# Altium integrated library BSR033A.IntLib: 35 symbols
Pins are listed as number, name and electrical type; pins without a type are passive.

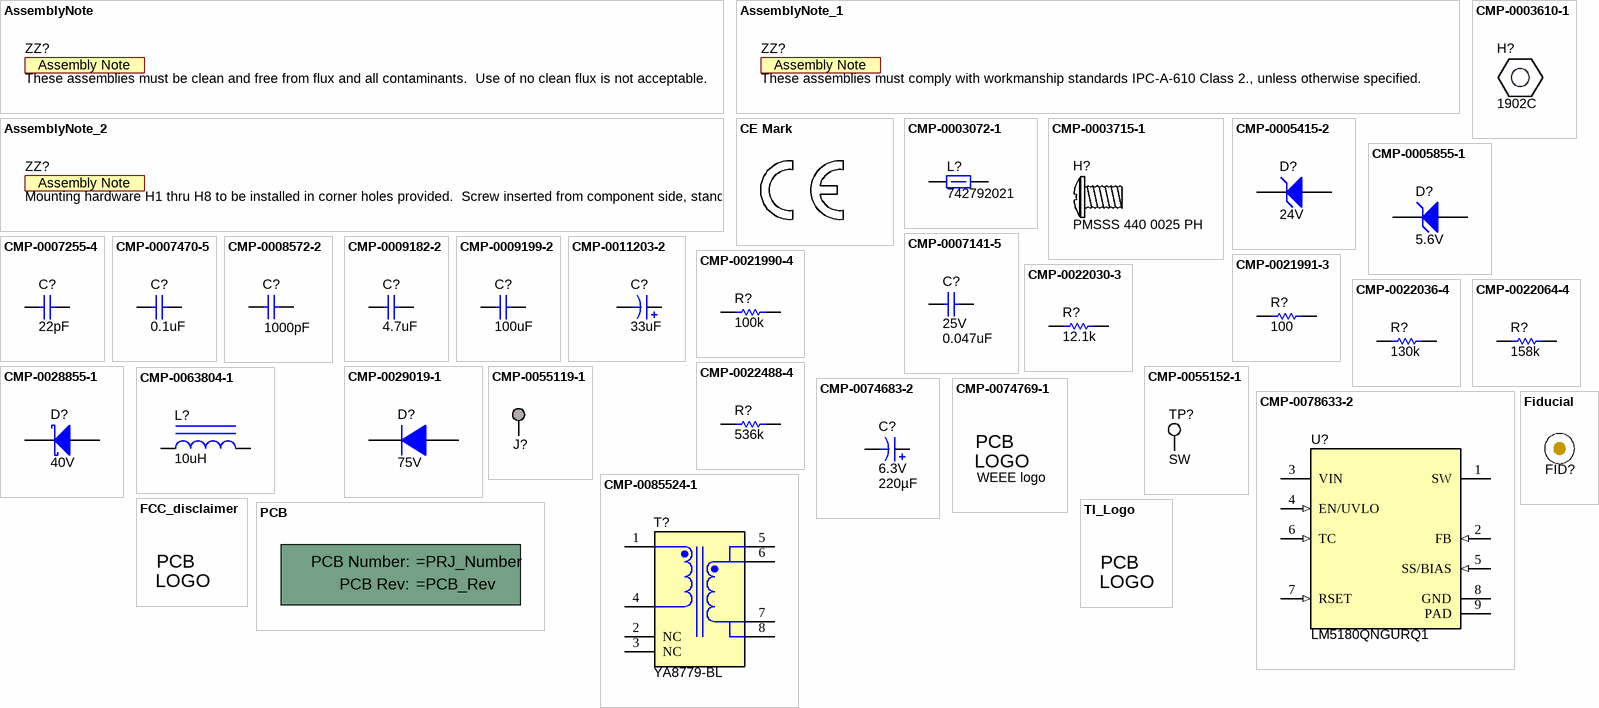
[diagram p0: symbols AssemblyNote to TI_Logo]

## AssemblyNote
designator ZZ?, comment These assemblies must be clean and free from flux and all contaminants.  Use of no clean flux is not acceptable.  (no BOM)
SymbolCreator: codlsc; CompType: AssemblyNote; SymbolVersion: 2010-05-18; ClassName: AssemblyNote; Publisher: Texas Instruments; LatestRevisionDate: 2017-05-23
footprint AssemblyNote
text: Assembly Note

## AssemblyNote_1
designator ZZ?, comment These assemblies must comply with workmanship standards IPC-A-610 Class 2., unless otherwise specified.  (no BOM)
SymbolCreator: codlsc; CompType: AssemblyNote; SymbolVersion: 2010-05-18; ClassName: AssemblyNote; Publisher: Texas Instruments; LatestRevisionDate: 2017-05-23
footprint AssemblyNote
text: Assembly Note

## AssemblyNote_2
designator ZZ?, comment Mounting hardware H1 thru H8 to be installed in corner holes provided.  Screw inserted from component side, standoff on solder side.  (no BOM)
SymbolCreator: codlsc; CompType: AssemblyNote; SymbolVersion: 2010-05-18; ClassName: AssemblyNote; Publisher: Texas Instruments; LatestRevisionDate: 2017-05-23
footprint AssemblyNote
text: Assembly Note

## CE Mark
designator LOGO?  (value not drawn)  (no BOM)
SymbolCreator: a0412235; SymbolVersion: 2014-07-08; Published: 2009-03-03; Publisher: Texas Instruments; LatestRevisionDate: 2016-03-21
footprint CE_Mark_5mm
footprint CE_Mark_10mm

## CMP-0003072-1
designator L?, comment 742792021
Ferrite Bead, 22 ohm @ 100 MHz, 6 A, 0805; Manufacturer: Wurth Elektronik; Ztyp@1GHz_Ohm: 40.219; ZTyp@100MHz_Ohm: 22; SizeAreaWB_mm2: 6.75; DCR_ohm: 8m; Value1: 0.008 ohm; Value: 22 ohm; Imax_A: 6A; SizeZ_mm: 1.45; SizeX_mm: 2; SizeY_mm: 1.25; SizeArea_mm2: 2.5; ComponentLink1URL: http://katalog.we-online.de/pbs/datasheet/742792021.pdf; Supplier Part Number 2: 710-742792021; Publisher: Texas Instruments; Supplier 2: Mouser; Published: 2014-04-30; RoHS: Y; MountType: SMT; Supplier 1: Digi-Key; PackageReference: 0805; Value2: 6A; CompType: Ferrite Bead; LatestRevisionDate: 2017-03-09; PartNumber: 742792021; ComponentLink1Description: Datasheet link; Supplier Part Number 1: 732-4637-1-ND; ValueDisplayed: 22 ohm
footprint 0805_HV (0805 with 30mil clearance between pads)
footprint 0805M (0805 from SM-752 data)
footprint 0805 (0805 from SM-752 data)
footprint 0805L (0805 from SM-752 data)
footprint 0805_HV1 (Custom footprint based on analyzing multiple manufacturer recommendations)
pins: 1, 2

## CMP-0003610-1
designator H?, comment 1902C
Standoff, Hex, 0.5"L #4-40 Nylon; Manufacturer: Keystone; CompType: Hardware; Component Classes: MountingHoles; ComponentLink1URL: http://www.keyelco.com/pdfs/M55-prod31.pdf; Key: 1902C; Publisher: Texas Instruments; Supplier 1: Digi-Key; PackageReference: Standoff; LatestRevisionDate: 2017-03-09; RoHS: Y; Supplier Part Number 1: 36-1902C-ND; MountType: N/A; PartNumber: 1902C; ComponentLink1Description: Datasheet Link; ClassName: Mounting Holes
footprint Keystone_1902C (Hex Standoff, 4-40 threaded, nylon)

## CMP-0003715-1
designator H?, comment PMSSS 440 0025 PH
MACHINE SCREW PAN PHILLIPS 4-40; Manufacturer: B&F Fastener Supply; CompType: Standoff; Component Classes: MountingHoles; ComponentLink1URL: http://www.fasnetdirect.com/refguide/Machinepancombo.pdf; Key: PMSSS 440 0025 PH; Publisher: Texas Instruments; Supplier 1: Digi-Key; PackageReference: Machine Screw, 4-40, 1/4 inch; LatestRevisionDate: 2017-03-09; RoHS: Y; Supplier Part Number 1: H703-ND; MountType: TH; PartNumber: PMSSS 440 0025 PH; ComponentLink1Description: Datasheet Link; ClassName: Mounting Holes
footprint B_F_PMSSS4400025PH (MACHINE SCREW PAN PHILLIPS 4-40)

## CMP-0005415-2
designator D?, comment Vz_V: 24V  (hidden comment: DFLZ24-7)
Diode, Zener, 24 V, 1 W, PowerDI123; Manufacturer: Diodes Inc.; Power_W: 1W; SizeAreaWB_mm2: 13.066; RJA_CperW: 110; U/M: EA; Value: 24V; SizeZ_mm: 0.98; SizeX_mm: 3.7; SizeY_mm: 1.78; SizeArea_mm2: 6.586; AEC Category: Q101; Supplier Part Number 2: 621-DFLZ24-7; Publisher: Texas Instruments; Supplier 2: Mouser; Supplier Part Number 3: 2077975; Supplier 3: Farnell; Published: 2008-10-08; RoHS: Y; Value1: 1W; MountType: SMT; Supplier 1: Digi-Key; LatestRevisionNote: Updated Supplier Data; PackageReference: PowerDI123; CompType: Zener; LatestRevisionDate: 2017-03-09; PartNumber: DFLZ24-7; AEC Qualified: ?; ComponentLink1Description: Datasheet link; Supplier Part Number 1: DFLZ24DICT-ND; ComponentLink1URL: http://www.diodes.com/datasheets/ds30464.pdf
footprint PowerDI123 (Diodes Inc recommended land pattern, document number DS30628 Rev. 6-2)
pins: 1 K, 2 A

## CMP-0005855-1
designator D?, comment Vz_V: 5.6V  (hidden comment: MMSZ5232BS-7-F)
Diode, Zener, 5.6 V, 200 mW, SOD-323; Manufacturer: Diodes Inc.; Power_W: 200mW; SizeAreaWB_mm2: 8.695; Value1: 0.2W; RJA_CperW: 350; U/M: EA; Value: 5.6V; SizeZ_mm: 1; SizeX_mm: 2.7; SizeY_mm: 1.35; SizeArea_mm2: 3.645; AEC Category: Q101; ComponentLink1URL: http://www.diodes.com/datasheets/ds31038.pdf; Supplier Part Number 2: 621-MMSZ5232BS-F; Publisher: Texas Instruments; Supplier 2: Mouser; Published: 2008-10-08; RoHS: Y; MountType: SMT; Supplier 1: Digi-Key; LatestRevisionNote: Updated Supplier Data; PackageReference: SOD-323; CompType: Zener; LatestRevisionDate: 2017-03-09; PartNumber: MMSZ5232BS-7-F; AEC Qualified: ?; ComponentLink1Description: Datasheet link; Supplier Part Number 1: MMSZ5232BS-FDICT-ND
footprint SOD-323 (NXP recommended land pattern)
pins: 1 K, 2 A

## CMP-0007141-5
designator C?, comment VDC_V: 25V  ValueDisplayed: 0.047uF  (hidden comment: GCM188R71E473KA37D)
CAP, CERM, 0.047 uF, 25 V, +/- 10%, X7R, AEC-Q200 Grade 1, 0603; Manufacturer: MuRata; TaMin_C: -55°C; Polarized: N; SizeAreaWB_mm2: 4.68; Value1: Unknown; U/M: EA; TaMax_C: 125°C; SizeZ_mm: 1; SizeX_mm: 1.6; SizeY_mm: 0.8; Cap_Case: 0603; SizeArea_mm2: 1.28; CompType: Capacitor; AEC Qualified: Y; Cap_F: 47nF; AEC Category: Q200; Supplier Part Number 2: 81-GCM188R71E473KA7D; Publisher: Texas Instruments; Supplier 2: Mouser; TempCo: X7R; Published: 2008-06-19; RoHS: Y; MountType: SMT; Value: 0.047uF; Supplier 1: Digi-Key; PackageReference: 0603; Tolerance_%: 10%; Value2: 25V; LatestRevisionDate: 2017-03-09; PartNumber: GCM188R71E473KA37D; ComponentLink1Description: Datasheet link; Supplier Part Number 1: 490-8018-1-ND; Technology: Ceramic; ComponentLink1URL: http://psearch.murata.com/capacitor/product/GCM188R71E473KA37%23.pdf; AEC Grade: 1
footprint 0603 (0603 from SM-752 data)
footprint 0603_HV (Ernesto recommended land pattern.  26 mil between pads.)
footprint 0603L (0603 from SM-752 data)
footprint 0603S
footprint 0603M (0603 from SM-752 data)
pins: 1, 2

## CMP-0007255-4
designator C?, comment ValueDisplayed: 22pF  (hidden comment: GRM1885C2A220JA01D)
CAP, CERM, 22 pF, 100 V, +/- 5%, C0G/NP0, 0603; Manufacturer: MuRata; TaMin_C: -55°C; Polarized: N; SizeAreaWB_mm2: 4.68; Value1: Unknown; U/M: EA; Value: 22pF; TaMax_C: 125°C; SizeZ_mm: 1; SizeX_mm: 1.6; SizeY_mm: 0.8; Cap_Case: 0603; Value2: 100V; SizeArea_mm2: 1.28; CompType: Capacitor; AEC Category: Q200; Supplier Part Number 2: 81-GRM1885C2A220JA01; Supplier 2: Mouser; TempCo: C0G/NP0; RoHS: Y; MountType: SMT; Supplier 1: Digi-Key; PackageReference: 0603; Tolerance_%: 5%; PartNumber: GRM1885C2A220JA01D; AEC Qualified: ?; Cap_F: 22pF; VDC_V: 100V; ComponentLink1Description: Datasheet link; Supplier Part Number 1: 490-1335-1-ND; Technology: Ceramic; ComponentLink1URL: http://search.murata.co.jp/Ceramy/PnsearchViewAction.do?HnOFG=ON&HnNFG=ON&SEL_CNT=50&sLang=en&sKey=GRM1885C2A220JA01D&x=9&y=9&search=startwith; Publisher: Texas Instruments; Published: 2008-06-19; LatestRevisionDate: 2017-03-09
footprint 0603 (0603 from SM-752 data)
footprint 0603_HV (Ernesto recommended land pattern.  26 mil between pads.)
footprint 0603L (0603 from SM-752 data)
footprint 0603S
footprint 0603M (0603 from SM-752 data)
pins: 1, 2

## CMP-0007470-5
designator C?, comment ValueDisplayed: 0.1uF  (hidden comment: GRM188R72A104KA35J)
CAP, CERM, 0.1 uF, 100 V, +/- 10%, X7R, 0603; Manufacturer: MuRata; TaMin_C: -55°C; Polarized: N; SizeAreaWB_mm2: 4.68; Value1: Unknown; U/M: EA; Value: 0.1uF; TaMax_C: 125°C; SizeZ_mm: 1; SizeX_mm: 1.6; SizeY_mm: 0.8; Cap_Case: 0603; Value2: 100V; SizeArea_mm2: 1.28; CompType: Capacitor; Cap_F: 100nF; AEC Category: Q200; Supplier Part Number 2: 81-GRM188R72A104KA5J; Publisher: Texas Instruments; Supplier 2: Mouser; TempCo: X7R; Published: 2008-06-19; RoHS: Y; MountType: SMT; Supplier 1: Digi-Key; PackageReference: 0603; Tolerance_%: 10%; LatestRevisionDate: 2017-03-09; PartNumber: GRM188R72A104KA35J; AEC Qualified: ?; VDC_V: 100V; ComponentLink1Description: Datasheet link; Supplier Part Number 1: 490-6439-1-ND; Technology: Ceramic; ComponentLink1URL: http://search.murata.co.jp/Ceramy/image/img/A01X/G101/ENG/GRM188R72A104KA35-01.pdf
footprint 0603 (0603 from SM-752 data)
footprint 0603_HV (Ernesto recommended land pattern.  26 mil between pads.)
footprint 0603L (0603 from SM-752 data)
footprint 0603S
footprint 0603M (0603 from SM-752 data)
pins: 1, 2

## CMP-0008572-2
designator C?, comment ValueDisplayed: 1000pF  (hidden comment: 202R18W102KV4E)
CAP, CERM, 1000 pF, 2000 V, +/- 10%, X7R, 1206_190; Manufacturer: Johanson Technology; TaMin_C: -55°C; Polarized: N; SizeAreaWB_mm2: 10.92; Value1: Unknown; U/M: EA; Value: 1000pF; TaMax_C: 125°C; SizeZ_mm: 1.9; SizeX_mm: 3.2; SizeY_mm: 1.6; Cap_Case: 1206; Value2: 2000V; SizeArea_mm2: 5.12; CompType: Capacitor; Cap_F: 1nF; VDC_V: 2kV; AEC Category: Q200; Publisher: Texas Instruments; TempCo: X7R; Published: 2008-06-19; RoHS: Y; MountType: SMT; PackageReference: 1206_190; Tolerance_%: 10%; LatestRevisionDate: 2017-03-09; PartNumber: 202R18W102KV4E; AEC Qualified: ?; ComponentLink1Description: Datasheet link; Technology: Ceramic; ComponentLink1URL: http://www.johansondielectrics.com/images/stories/catalog/JDI-Product-Catalog.pdf
footprint 1206_190
footprint 1206_190L (1206_190)
footprint 1206_190M (1206_190)
pins: 1, 2

## CMP-0009182-2
designator C?, comment ValueDisplayed: 4.7uF  (hidden comment: GRM32DC72A475KE01L)
CAP, CERM, 4.7 uF, 100 V, +/- 10%, X7S, 1210; Manufacturer: MuRata; TaMin_C: -55°C; Polarized: N; SizeAreaWB_mm2: 14.7; Value1: Unknown; U/M: EA; Value: 4.7uF; TaMax_C: 125°C; SizeZ_mm: 2.2; SizeX_mm: 3.2; SizeY_mm: 2.5; Cap_Case: 1210; Value2: 100V; SizeArea_mm2: 8; CompType: Capacitor; Cap_F: 4.7µF; AEC Category: Q200; Publisher: Texas Instruments; TempCo: X7S; Published: 2008-06-19; RoHS: Y; MountType: SMT; Supplier 1: Mouser; PackageReference: 1210; Tolerance_%: 10%; LatestRevisionDate: 2017-03-09; PartNumber: GRM32DC72A475KE01L; AEC Qualified: N; VDC_V: 100V; ComponentLink1Description: Datasheet link; AEC Grade: N/A; Supplier Part Number 1: 81-GRM32DC72A475KE1L; Technology: Ceramic; ComponentLink1URL: http://search.murata.co.jp/Ceramy/image/img/A01X/G101/ENG/GRM32DC72A475KE01-01.pdf
footprint 1210_220 (1210)
footprint 1210_220L (1210)
footprint 1210_220M (1210)
pins: 1, 2

## CMP-0009199-2
designator C?, comment ValueDisplayed: 100uF  (hidden comment: GRM32EC80J107ME20L)
CAP, CERM, 100 uF, 6.3 V, +/- 20%, X6S, 1210; Manufacturer: MuRata; TaMin_C: -55°C; Polarized: N; SizeAreaWB_mm2: 14.7; Value1: Unknown; U/M: EA; Value: 100uF; TaMax_C: 105°C; SizeZ_mm: 2.7; SizeX_mm: 3.2; SizeY_mm: 2.5; Cap_Case: 1210; Value2: 6.3V; SizeArea_mm2: 8; CompType: Capacitor; Cap_F: 100µF; AEC Category: Q200; Supplier Part Number 2: 81-GRM32EC80J107ME0L; Publisher: Texas Instruments; Supplier 2: Mouser; Supplier Part Number 3: 1889302; TempCo: X6S; Supplier 3: Farnell; Published: 2008-06-19; RoHS: Y; MountType: SMT; Supplier 1: Digi-Key; PackageReference: 1210; Tolerance_%: 20%; LatestRevisionDate: 2017-03-09; PartNumber: GRM32EC80J107ME20L; AEC Qualified: ?; VDC_V: 6.3V; ComponentLink1Description: Datasheet link; Supplier Part Number 1: GRM32EC80J107ME20L-ND; Technology: Ceramic; ComponentLink1URL: http://search.murata.co.jp/Ceramy/PnsearchViewAction.do?HnOFG=ON&HnNFG=ON&SEL_CNT=50&sLang=en&sKey=GRM32EC80J107ME20L&x=9&y=9&search=startwith
footprint 1210_270 (1210)
footprint 1210_270L (1210)
footprint 1210_270M (1210)
pins: 1, 2

## CMP-0011203-2
designator C?, comment ValueDisplayed: 33uF  (hidden comment: EEE-FK2A330P)
CAP, AL, 33 uF, 100 V, +/- 20%, 0.7 ohm, AEC-Q200 Grade 2, SMD; Manufacturer: Panasonic; TaMin_C: -55°C; Polarized: Y; SizeAreaWB_mm2: 172.2; Value1: 0.7 ohm; U/M: EA; Value: 33uF; TaMax_C: 105°C; SizeZ_mm: 10.2; SizeX_mm: 12; SizeY_mm: 10.3; Cap_Case: G; Value2: 100V; SizeArea_mm2: 123.6; CompType: Capacitor; Cap_F: 33µF; IRMS_A: 2dA; AEC Grade: 2; AEC Category: Q200; ESR_ohm: 7d; Supplier Part Number 2: 667-EEE-FK2A330P; Publisher: Texas Instruments; Supplier 2: Mouser; Supplier Part Number 3: 1850130; Supplier 3: Farnell; RoHS: Y; MountType: SMT; Supplier 1: Digi-Key; PackageReference: SMT Radial G; Tolerance_%: 20%; LatestRevisionDate: 2017-03-09; PartNumber: EEE-FK2A330P; AEC Qualified: Y; Series: FK; VDC_V: 100V; ComponentLink1Description: Datasheet link; Supplier Part Number 1: PCE3846CT-ND; Technology: AL; ComponentLink1URL: https://industrial.panasonic.com/cdbs/www-data/pdf/RDE0000/ABA0000C1181.pdf
footprint SM_RADIAL_G (10 x 10.2mm:  Panasonic G)
pins: 1 +, 2 -

## CMP-0021990-4
designator R?, comment ValueDisplayed: 100k  (hidden comment: CRCW0603100KFKEA)
RES, 100 k, 1%, 0.1 W, AEC-Q200 Grade 0, 0603; Manufacturer: Vishay-Dale; Power_W: 100mW; TempCo: 100 ppm/C; Value: 100k; EIA_Code: E96; SizeX_mm: 1.6; SizeY_mm: 0.8; SizeZ_mm: 1; Value2: 0.1W; SizeArea_mm2: 1.28; CompType: Resistor; AEC Qualified: Y; VDC_V: 75V; AEC Category: Q200; AEC Grade: 0; ComponentLink1URL: http://www.vishay.com/docs/20035/dcrcwe3.pdf; Supplier Part Number 2: 42K3668; Supplier 2: Newark; Value_Code: 100k; RoHS: E; Value1: 1%; MountType: SMT; Supplier 1: Digi-Key; PackageReference: 0603; Tolerance_%: 1%; Res_ohm: 100k; PartNumber: CRCW0603100KFKEA; ComponentLink1Description: Datasheet link; Supplier Part Number 1: 541-100KHCT-ND; Technology: Thick Film; Supplier 3: Mouser; Supplier Part Number 3: 71-CRCW0603-100K-E3
footprint 0603 (0603 from SM-752 data)
footprint 0603_HV (Ernesto recommended land pattern.  26 mil between pads.)
footprint 0603L (0603 from SM-752 data)
footprint 0603S
footprint 0603M (0603 from SM-752 data)
pins: 1, 2

## CMP-0021991-3
designator R?, comment ValueDisplayed: 100  (hidden comment: CRCW0603100RFKEA)
RES, 100, 1%, 0.1 W, 0603; Manufacturer: Vishay-Dale; Power_W: 100mW; TempCo: 100 ppm/C; Value_Code: 100R; U/M: EA; Value: 100; EIA_Code: E96; SizeX_mm: 1.6; SizeY_mm: 0.8; SizeZ_mm: 1; Value2: 0.1W; SizeArea_mm2: 1.28; CompType: Resistor; VDC_V: 75V; AEC Category: Q200; Supplier Part Number 2: 52K8078; Publisher: Texas Instruments; Supplier 2: Newark; Supplier Part Number 3: 71-CRCW0603-100-E3; Supplier 3: Mouser; Published: 2008-06-26; RoHS: Y; Value1: 1%; MountType: SMT; Supplier 1: Digi-Key; PackageReference: 0603; Tolerance_%: 1%; Res_ohm: 100; LatestRevisionDate: 2017-03-09; PartNumber: CRCW0603100RFKEA; AEC Qualified: ?; ComponentLink1Description: Datasheet link; Supplier Part Number 1: 541-100HCT-ND; Technology: Thick Film; ComponentLink1URL: http://www.vishay.com/docs/20035/dcrcwe3.pdf
footprint 0603 (0603 from SM-752 data)
footprint 0603_HV (Ernesto recommended land pattern.  26 mil between pads.)
footprint 0603L (0603 from SM-752 data)
footprint 0603S
footprint 0603M (0603 from SM-752 data)
pins: 1, 2

## CMP-0022030-3
designator R?, comment ValueDisplayed: 12.1k  (hidden comment: CRCW060312K1FKEA)
RES, 12.1 k, 1%, 0.1 W, 0603; Manufacturer: Vishay-Dale; Power_W: 100mW; TempCo: 100 ppm/C; Value_Code: 12k1; U/M: EA; Value: 12.1k; EIA_Code: E96; SizeX_mm: 1.6; SizeY_mm: 0.8; SizeZ_mm: 1; Value2: 0.1W; SizeArea_mm2: 1.28; CompType: Resistor; VDC_V: 75V; AEC Category: Q200; Supplier Part Number 2: 52K8105; Publisher: Texas Instruments; Supplier 2: Newark; Supplier Part Number 3: 71-CRCW0603-12.1K-E3; Supplier 3: Mouser; Published: 2008-06-26; RoHS: Y; Value1: 1%; MountType: SMT; Supplier 1: Digi-Key; PackageReference: 0603; Tolerance_%: 1%; LatestRevisionDate: 2017-03-09; PartNumber: CRCW060312K1FKEA; AEC Qualified: ?; ComponentLink1Description: Datasheet link; Supplier Part Number 1: 541-12.1KHCT-ND; Technology: Thick Film; Res_ohm: 12.1k; ComponentLink1URL: http://www.vishay.com/docs/20035/dcrcwe3.pdf
footprint 0603 (0603 from SM-752 data)
footprint 0603_HV (Ernesto recommended land pattern.  26 mil between pads.)
footprint 0603L (0603 from SM-752 data)
footprint 0603S
footprint 0603M (0603 from SM-752 data)
pins: 1, 2

## CMP-0022036-4
designator R?, comment ValueDisplayed: 130k  (hidden comment: CRCW0603130KFKEA)
RES, 130 k, 1%, 0.1 W, AEC-Q200 Grade 0, 0603; Manufacturer: Vishay-Dale; Power_W: 100mW; TempCo: 100 ppm/C; Value: 130k; EIA_Code: E96; SizeX_mm: 1.6; SizeY_mm: 0.8; SizeZ_mm: 1; Value2: 0.1W; SizeArea_mm2: 1.28; CompType: Resistor; AEC Qualified: Y; VDC_V: 75V; AEC Category: Q200; AEC Grade: 0; Supplier Part Number 2: 52K8127; Supplier 2: Newark; Supplier Part Number 3: 71-CRCW0603-130K-E3; Supplier 3: Mouser; Value_Code: 130k; RoHS: E; Value1: 1%; MountType: SMT; Supplier 1: Digi-Key; PackageReference: 0603; Tolerance_%: 1%; Res_ohm: 130k; PartNumber: CRCW0603130KFKEA; ComponentLink1Description: Datasheet link; Supplier Part Number 1: 541-130KHCT-ND; Technology: Thick Film; ComponentLink1URL: http://www.vishay.com/docs/20035/dcrcwe3.pdf
footprint 0603 (0603 from SM-752 data)
footprint 0603_HV (Ernesto recommended land pattern.  26 mil between pads.)
footprint 0603L (0603 from SM-752 data)
footprint 0603S
footprint 0603M (0603 from SM-752 data)
pins: 1, 2

## CMP-0022064-4
designator R?, comment ValueDisplayed: 158k  (hidden comment: CRCW0603158KFKEA)
RES, 158 k, 1%, 0.1 W, AEC-Q200 Grade 0, 0603; Manufacturer: Vishay-Dale; Power_W: 100mW; TempCo: 100 ppm/C; Value: 158k; EIA_Code: E96; SizeX_mm: 1.6; SizeY_mm: 0.8; SizeZ_mm: 1; Value2: 0.1W; SizeArea_mm2: 1.28; CompType: Resistor; AEC Qualified: Y; VDC_V: 75V; AEC Category: Q200; AEC Grade: 0; ComponentLink1URL: http://www.vishay.com/docs/20035/dcrcwe3.pdf; Supplier Part Number 2: 52K8164; Supplier 2: Newark; Supplier Part Number 3: 71-CRCW0603-158K-E3; Supplier 3: Mouser; Value_Code: 158k; RoHS: E; Value1: 1%; MountType: SMT; Supplier 1: Digi-Key; PackageReference: 0603; Tolerance_%: 1%; Res_ohm: 158k; PartNumber: CRCW0603158KFKEA; ComponentLink1Description: Datasheet link; Supplier Part Number 1: 541-158KHCT-ND; Technology: Thick Film
footprint 0603 (0603 from SM-752 data)
footprint 0603_HV (Ernesto recommended land pattern.  26 mil between pads.)
footprint 0603L (0603 from SM-752 data)
footprint 0603S
footprint 0603M (0603 from SM-752 data)
pins: 1, 2

## CMP-0022488-4
designator R?, comment ValueDisplayed: 536k  (hidden comment: CRCW0603536KFKEA)
RES, 536 k, 1%, 0.1 W, AEC-Q200 Grade 0, 0603; Manufacturer: Vishay-Dale; Power_W: 100mW; TempCo: 100 ppm/C; Value: 536k; EIA_Code: E96; SizeX_mm: 1.6; SizeY_mm: 0.8; SizeZ_mm: 1; Value2: 0.1W; SizeArea_mm2: 1.28; CompType: Resistor; AEC Qualified: Y; VDC_V: 75V; AEC Category: Q200; AEC Grade: 0; ComponentLink1URL: http://www.vishay.com/docs/20035/dcrcwe3.pdf; Supplier Part Number 2: 71-CRCW0603-536K-E3; Supplier 2: Mouser; Supplier Part Number 3: 1872010; Supplier 3: Farnell; Value_Code: 536k; RoHS: E; Value1: 1%; MountType: SMT; Supplier 1: Digi-Key; PackageReference: 0603; Tolerance_%: 1%; Res_ohm: 536k; PartNumber: CRCW0603536KFKEA; ComponentLink1Description: Datasheet link; Supplier Part Number 1: 541-536KHCT-ND; Technology: Thick Film
footprint 0603 (0603 from SM-752 data)
footprint 0603_HV (Ernesto recommended land pattern.  26 mil between pads.)
footprint 0603L (0603 from SM-752 data)
footprint 0603S
footprint 0603M (0603 from SM-752 data)
pins: 1, 2

## CMP-0028855-1
designator D?, comment 40V
Diode, Schottky, 40 V, 3 A, AEC-Q101, SMAF; PartNumber: FSV340AF; Manufacturer: Fairchild Semiconductor; SizeAreaWB_mm2: 19.95; SizeArea_mm2: 11.75; AEC Qualified: Y; TJmax_C: 150°C; AEC Category: Q101; SizeZ_mm: 1; Green_REACh: Incomplete; Io_A: 3A; Vf_V: 5dV; SizeY_mm: 2.5; Value2: 0.5V; Green_Lifecycle: Not Set; U/M: EA; SizeX_mm: 4.7; ComponentLink1Description: Datasheet link; RoHS: Y; Supplier 1: Digi-Key; Vr_V: 40V; Green_EU RoHS: Incomplete; PackageReference: SMAF; Value: 40V; Publisher: Texas Instruments; Supplier Part Number 2: 512-FSV340AF; Supplier 2: Mouser; Published: 2008-06-26; LatestRevisionDate: 2017-05-08; ComponentLink1URL: https://www.fairchildsemi.com/datasheets/FS/FSV330AF.pdf; Value1: 3A; CompType: Diode; MountType: SMT; Supplier Part Number 1: FSV340AFCT-ND; Type: Schottky; Green_EU RoHS-2: Incomplete
footprint SMAF (SMD, 2-Leads, Body 3.8x2.5mm)
pins: 1 K, 2 A

## CMP-0029019-1
designator D?, comment 75V
Diode, Ultrafast, 75 V, 0.25 A, SOD-323; Manufacturer: Central Semiconductor; PartNumber: CMDD4448; Io_A: 2.5dA; Green_Lifecycle: Not Set; SizeAreaWB_mm2: 8.695; Green_REACh: Incomplete; Value1: 0.25A; TJmax_C: 175°C; U/M: EA; SizeZ_mm: 1; SizeX_mm: 2.7; SizeY_mm: 1.35; Vf_V: 1.2V; SizeArea_mm2: 3.645; AEC Category: Q101; ComponentLink1URL: http://www.centralsemi.com/PDFs/products/CMDD4448.PDF; Publisher: Texas Instruments; Vr_V: 75V; Published: 2008-06-26; RoHS: Y; MountType: SMT; Green_EU RoHS-2: Incomplete; Value: 75V; Green_EU RoHS: Incomplete; PackageReference: SOD-323; Value2: 1.2V; CompType: Diode; Type: Ultrafast; LatestRevisionDate: 2017-05-08; AEC Qualified: ?; ComponentLink1Description: Datasheet link
footprint SOD-323 (NXP recommended land pattern)
pins: 1 K, 2 A

## CMP-0055119-1
designator J?, comment 1573-2  (value not drawn)
Terminal, Turret, TH, Double; Manufacturer: Keystone; CT: FALSE; Green_REACh: Passed; CompType: Turret Terminal; Green_Lifecycle: Active; ComponentLink1URL: http://www.keyelco.com/pdfs/M55p126.pdf; Publisher: Texas Instruments; Green_EU RoHS-2: Incomplete; Supplier 1: Digi-Key; PackageReference: Keystone1573-2; LatestRevisionDate: 26/05/2017; RoHS: Y; CNHeader: FALSE; Supplier Part Number 1: 36-1573-2-ND; MountType: TH; Green_EU RoHS: Passed; PartNumber: 1573-2; ComponentLink1Description: Datasheet URL
footprint Keystone1573-2 (Double Turret)
pins: 1

## CMP-0055152-1
designator TP?, comment SW
Test Point, Miniature, SMT; Manufacturer: Keystone; PartNumber: 5015; CNHeader: FALSE; Green_Lifecycle: Active; Green_REACh: Passed; CT: TRUE; ComponentLink1URL: http://www.keyelco.com/userAssets/store/files/5015.PDF; Supplier Part Number 2: 534-5015; Publisher: Texas Instruments; Supplier 2: Mouser; RoHS: Y; MountType: SMT; Green_EU RoHS-2: Incomplete; Supplier 1: Digi-Key; Green_EU RoHS: Passed; PackageReference: Testpoint_Keystone_Miniature; CompType: Test Point; LatestRevisionDate: 26/05/2017; ComponentLink1Description: Datasheet URL; Supplier Part Number 1: 36-5015TR-ND
footprint Testpoint_Keystone_Miniature (Miniature SMT test point)
pins: 1

## CMP-0063804-1
designator L?, comment ValueDisplayed: 10uH  (hidden comment: 744042100)
Inductor, Shielded Drum Core, Ferrite, 10 uH, 1 A, 0.12 ohm, SMD; Manufacturer: Wurth Elektronik; Isat: 1A @ 35% inductance drop; Irms: 1.3A @ 30C rise; Green_Lifecycle: Active; SizeAreaWB_mm2: 33.64; DCR_ohm: 1.2d; Green_REACh: Passed; Value: 10uH; Imax_A: 1A; SizeZ_mm: 1.8; SizeX_mm: 4.8; SizeArea_mm2: 23.04; Ind_H: 10µH; AEC Category: Q200; PackageReference: WE-TPC-M1; ComponentLink1Description: Datasheet link; ComponentLink1URL: http://www.we-online.com/eisos/pdf/744042100.pdf; Supplier Part Number 2: 710-744042100; Publisher: Texas Instruments; Supplier 2: Mouser; Supplier Part Number 3: 1635842; Supplier 3: Farnell; Published: 2008-06-26; RoHS: Y; Value1: 0.12 ohm; Material: Ferrite; MountType: SMT; Green_EU RoHS-2: Incomplete; Supplier 1: Digi-Key; Green_EU RoHS: Passed; SizeY_mm: 4.8; Value2: 1A; CompType: Inductor; LatestRevisionDate: 2017-06-02; PartNumber: 744042100; AEC Qualified: ?; Supplier Part Number 1: 732-1025-1-ND; Technology: Shielded Drum Core
footprint WE-TPC-M1 (Wurth Elektronik recommended land pattern)
pins: 1, 2

## CMP-0074683-2
designator C?, comment VDC_V: 6.3V  ValueDisplayed: 220µF  (hidden comment: T598D107M010ATE025)
CAP, Aluminum Polymer, 220 µF, 6.3 V,+/- 20%, 0.01 ohm, 7343-31 SMD; Manufacturer: MuRata; PartNumber: ECASD60J227M010K00; TaMin_C: -40°C; ESR_ohm: 0.01; Polarized: Y; SizeAreaWB_mm2: 58.59; Value: 220uF; TaMax_C: 105°C; SizeZ_mm: 3.1; SizeX_mm: 7.3; SizeY_mm: 4.3; SizeArea_mm2: 31.39; CompType: Capacitor; AEC Qualified: N; IRMS_A: 3A; AEC Category: Q200; ComponentLink1URL: http://www.murata.com/~/media/webrenewal/support/library/catalog/products/capacitor/polymer/c90e.ashx; Supplier Part Number 2: 11AC3033; Supplier 2: Newark; Supplier Part Number 3: 81-ECASD60J227M010K0; Supplier 3: Mouser; RoHS: Y; Value1: 0.01 ohm; MountType: SMT; Supplier 1: Digi-Key; PackageReference: 7343-31; Tolerance_%: 20%; Cap_Case: 7343-31; Value2: 6.3V; Series: ECAS; Cap_F: 220µF; ComponentLink1Description: Datasheet link; AEC Grade: N/A; Supplier Part Number 1: 490-12529-1-ND; Technology: Aluminum Polymer
footprint 7343-31 (Medium Density based on Kemet T495 dimensions)
pins: 1 +, 2 -

## CMP-0074769-1
designator Logo?, comment WEEE logo  (no BOM)
Library Reference: WEEE logo; Lib Reference: WEEE logo; PartNumber: WEEE logo
footprint WEEE_Minimum (WEEElie bin)
text: PCB; LOGO

## CMP-0078633-2
designator U?, comment LM5180QNGURQ1
70-V PSR Flyback Converter With 100-V, 1.2-A Power Switch and Ultra-Low IQ, NGU0008C (WSON-8); Alternate PartNumber: LM5180QNGUTQ1; Alternate Manufacturer: Texas Instruments; Alternate Manufacturer: None; SizeAreaWB_mm2: 25; SizeZ_mm: 0.8; SizeX_mm: 4; SizeArea_mm2: 16; CompType: IC; AEC Qualified: Y; AEC Category: Q200; ComponentLink1URL: http://www.ti.com/lit/ds/symlink/lm5180-q1.pdf; PackageDescription: WSON-8; MountType: SMT; ComponentLink2URL: http://www.ti.com/product/lm5180-q1; ComponentLink2Description: Product Folder; Manufacturer: Texas Instruments; PackageReference: NGU0008C; SizeY_mm: 4; PartNumber: LM5180QNGURQ1; ComponentLink1Description: Datasheet Link
footprint NGU0008C (SON, 8-Leads, Body 4x4mm, Pitch 0.8mm)
pins: 1 SW (power), 2 FB (in), 3 VIN (power), 4 EN/UVLO (in), 5 SS/BIAS (in), 6 TC (in), 7 RSET (in), 8 GND (power), 9 PAD (power)

## CMP-0085524-1
designator T?, comment YA8779-BL
Transformer, 30 uH, SMD; Manufacturer: Coilcraft; SizeAreaWB_mm2: 137.86; SizeArea_mm2: 94.86; AEC Qualified: N; Lp: 30; AEC Category: Q200; Value: 30uH; SizeZ_mm: 10.6; Ind_H: 30µH; SizeY_mm: 10.2; Ns1toNp: 0.33; Rsec1_ohm: 0.025; DCR_ohm: 0.014; SizeX_mm: 9.3; LeakageInd_H: 380nH; ComponentLink1Description: Datasheet URL; RoHS: Y; PackageReference: 9.3x10.2mm; PartNumber: YA8779-BL; AEC Grade: N/A; ComponentLink1URL: https://sps16.itg.ti.com/sites/KMS/crossdivteams/altium/docs/ComponentDatasheets/YA8779-BL -- 5V single output.pdf; CompType: Transformer; MountType: SMT; ValueDisplayed: 30µH; Ns2toNp: 0.33; Rsec2_ohm: 0.025
footprint Coilcraft_YA8779-CL (SMD, 8-Leads, Body 9.3x10.2mm, Pitch 2.49mm)
pins: 1, 2 NC, 3 NC, 4, 5, 6, 7, 8

## FCC_disclaimer
designator Logo?, comment FCC disclaimer  (value not drawn)  (no BOM)
FCC_disclaimer; SymbolCreator: a0412235; SymbolVersion: 2016-03-21; Published: 2009-03-03; Publisher: Texas Instruments; LatestRevisionDate: 2016-03-21
footprint FCC_disclaimer
footprint FCC_disclaimer_stacked
text: PCB; LOGO

## Fiducial
designator FID?  (value not drawn)
Fiducial mark.  There is nothing to buy or mount.; SymbolCreator: codlsc; SymbolVersion: 2009-11-4; CompType: Fiducial; Publisher: Texas Instruments; LatestRevisionDate: 2016-12-05; LatestRevisionNote: Added Alternate PartNumber and Alternate Manufacturer parameters to appropriate components.; Manufacturer: N/A; MountType: N/A; PackageReference: N/A; PartNumber: N/A; ClassName: FiducialMark
footprint Fiducial10-30
footprint Fiducial10-20
footprint Fiducial15-30
footprint Fiducial20-40
footprint Fiducial6.4-20

## PCB
designator !PCB?, comment Printed Circuit Board  (value not drawn)  (mechanical)
Manufacturer: Any; SymbolCreator: a0412235; CompType: PCB; SymbolVersion: 2012-05-30; PartNumber: =PRJ_Number; RoHS: O; MountType: N/A; Publisher: Texas Instruments; LatestRevisionDate: 2017-05-23
1 alternate drawing of the same symbol
text: PCB Number:; PCB Rev:

## TI_Logo
designator Logo?, comment Texas Instruments  (value not drawn)  (no BOM)
Texas Instrument Corporate Signature; SymbolCreator: a0412235; SymbolVersion: 2011-08-22; Published: 2009-03-03; Publisher: Texas Instruments; ClassName: Logo; LatestRevisionDate: 2016-03-21
footprint TI_Stacked_SolderMask_Medium
footprint TI_Stacked_SolderMask_Small
footprint TI_Stacked_Overlay_Medium
footprint TI_Stacked_Overlay_Small
footprint TI_Horizontal_SolderMask_Medium
footprint TI_Horizontal_SolderMask_Small
footprint TI_Horizontal_Overlay_Medium
footprint TI_Horizontal_Overlay_Small
footprint TI_Symbol_SolderMask_Small
footprint TI_Symbol_Overlay_Medium
footprint TI_Symbol_Overlay_Small
footprint TI_Symbol_SolderMask_Medium
text: PCB; LOGO